# EAGLE library part M25P40-VMN6TPB (library library)
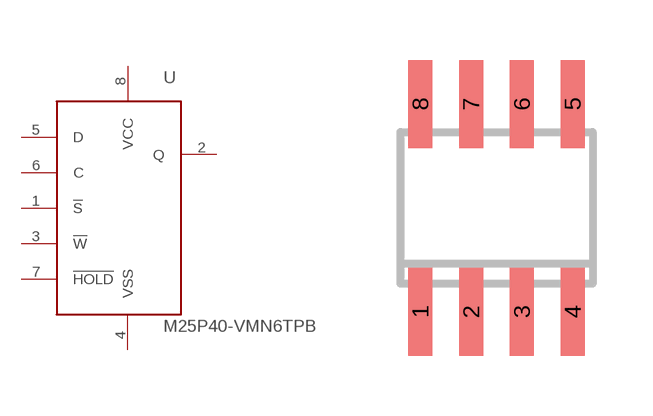
[diagram p0: symbol with the pads of SOIC8; footprint SOIC8]

Designator prefix U

## M25P40-VMN6TPB  [SOIC8]
1  !S
2  Q
3  !W
4  VSS
5  D
6  C
7  !HOLD
8  VCC

## Footprint SOIC8 (pad centres in mm)
Small Outline IC
smd 0.6 x 2.2: 1 -1.905,-2.6; 2 -0.635,-2.6; 3 0.635,-2.6; 4 1.905,-2.6; 5 1.905,2.6; 6 0.635,2.6; 7 -0.635,2.6; 8 -1.905,2.6